# Altium footprint library Molex-52147-1710.PcbLib: 1 footprints
Each footprint in its own frame and in the unit in brackets; x right, y up, seen from the top. Pads: shape width x height; smd on the part's side, far side on the other; paste and mask are expansions set on the pad; w line width, h text height; cw(c..) or ccw(c..) is an arc to the next point about the centre after c.
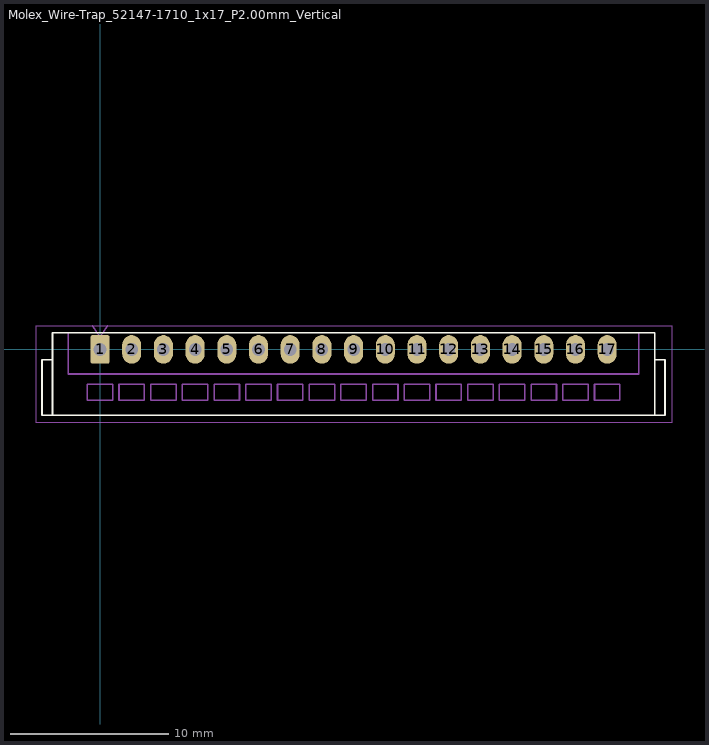
[diagram p0: the footprint, top view; thin cyan lines are the x and y axes]

## Molex_Wire-Trap_52147-1710_1x17_P2.00mm_Vertical [mm]
pads (17):
  rrect21% 1.2x1.8 hole 0.8: 1(0,0)
  rrect100% 1.2x1.8 hole 0.8: 2(2,0) 3(4,0) 4(6,0) 5(8,0) 6(10,0) 7(12,0) 8(14,0) 9(16,0) 10(18,0) 11(20,0) 12(22,0) 13(24,0) 14(26,0) 15(28,0) 16(30,0) 17(32,0)
F.SilkS:
  lines w0.12: -3,-0.65 -3.65,-0.65 -3.65,-4.15 -3,-4.15 ; 35,-0.65 35.65,-0.65 35.65,-4.15 35,-4.15 ; -3,-4.15 -3,1.05 35,1.05 35,-4.15 ; -3,-4.15 35,-4.15
F.CrtYd:
  lines w0.05: -4.05,-4.6 -4.05,1.45 36.1,1.45 36.1,-4.6 -4.05,-4.6
F.Fab:
  lines w0.1: -2,1.05 -2,-1.55 34,-1.55 34,1.05 ; -0.5,1.5 0,0.793 0.5,1.5 ; -0.8,-3.2 -0.8,-2.2 ; -0.8,-3.2 0.8,-3.2 ; -0.8,-3.2 -0.8,-2.2 ; -0.8,-3.2 0.8,-3.2 ; -0.8,-2.2 0.8,-2.2 ; -0.8,-2.2 0.8,-2.2 ; 0.8,-3.2 0.8,-2.2 ; 0.8,-3.2 0.8,-2.2 ; 1.2,-3.2 1.2,-2.2 ; 1.2,-3.2 2.8,-3.2 ; 1.2,-3.2 1.2,-2.2 ; 1.2,-3.2 2.8,-3.2 ; 1.2,-2.2 2.8,-2.2 ; 1.2,-2.2 2.8,-2.2 ; 2.8,-3.2 2.8,-2.2 ; 2.8,-3.2 2.8,-2.2 ; 3.2,-3.2 3.2,-2.2 ; 3.2,-3.2 4.8,-3.2 ; 3.2,-3.2 3.2,-2.2 ; 3.2,-3.2 4.8,-3.2 ; 3.2,-2.2 4.8,-2.2 ; 3.2,-2.2 4.8,-2.2 ; 4.8,-3.2 4.8,-2.2 ; 4.8,-3.2 4.8,-2.2 ; 5.2,-3.2 5.2,-2.2 ; 5.2,-3.2 6.8,-3.2 ; 5.2,-3.2 5.2,-2.2 ; 5.2,-3.2 6.8,-3.2 ; 5.2,-2.2 6.8,-2.2 ; 5.2,-2.2 6.8,-2.2 ; 6.8,-3.2 6.8,-2.2 ; 6.8,-3.2 6.8,-2.2 ; 7.2,-3.2 7.2,-2.2 ; 7.2,-3.2 8.8,-3.2 ; 7.2,-3.2 7.2,-2.2 ; 7.2,-3.2 8.8,-3.2 ; 7.2,-2.2 8.8,-2.2 ; 7.2,-2.2 8.8,-2.2 ; 8.8,-3.2 8.8,-2.2 ; 8.8,-3.2 8.8,-2.2 ; 9.2,-3.2 9.2,-2.2 ; 9.2,-3.2 10.8,-3.2 ; 9.2,-3.2 9.2,-2.2 ; 9.2,-3.2 10.8,-3.2 ; 9.2,-2.2 10.8,-2.2 ; 9.2,-2.2 10.8,-2.2 ; 10.8,-3.2 10.8,-2.2 ; 10.8,-3.2 10.8,-2.2 ; 11.2,-3.2 11.2,-2.2 ; 11.2,-3.2 12.8,-3.2 ; 11.2,-3.2 11.2,-2.2 ; 11.2,-3.2 12.8,-3.2 ; 11.2,-2.2 12.8,-2.2 ; 11.2,-2.2 12.8,-2.2 ; 12.8,-3.2 12.8,-2.2 ; 12.8,-3.2 12.8,-2.2 ; 13.2,-3.2 13.2,-2.2 ; 13.2,-3.2 14.8,-3.2 ; 13.2,-3.2 13.2,-2.2 ; 13.2,-3.2 14.8,-3.2 ; 13.2,-2.2 14.8,-2.2 ; 13.2,-2.2 14.8,-2.2 ; 14.8,-3.2 14.8,-2.2 ; 14.8,-3.2 14.8,-2.2 ; 15.2,-3.2 15.2,-2.2 16.8,-2.2 16.8,-3.2 15.2,-3.2 ; 17.2,-3.2 17.2,-2.2 18.8,-2.2 18.8,-3.2 17.2,-3.2 ; 19.2,-3.2 19.2,-2.2 20.8,-2.2 20.8,-3.2 19.2,-3.2 ; 21.2,-3.2 21.2,-2.2 22.8,-2.2 22.8,-3.2 21.2,-3.2 ; 23.2,-3.2 23.2,-2.2 24.8,-2.2 24.8,-3.2 23.2,-3.2 ; 25.2,-3.2 25.2,-2.2 26.8,-2.2 26.8,-3.2 25.2,-3.2 ; 27.2,-3.2 27.2,-2.2 28.8,-2.2 28.8,-3.2 27.2,-3.2 ; 29.2,-3.2 29.2,-2.2 30.8,-2.2 30.8,-3.2 29.2,-3.2 ; 31.2,-3.2 31.2,-2.2 32.8,-2.2 32.8,-3.2 31.2,-3.2
  text "'.Designator'" at 12.561,-1.848 h1